# Altium schematic symbol library MPU6050_MODULE.SchLib: 1 symbol
Pins are listed as number, name and electrical type; pins without a type are passive.

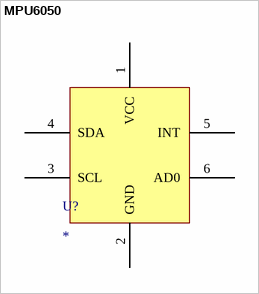
[diagram p0: symbol MPU6050]

## MPU6050
designator U?
pins: 1 VCC, 2 GND, 3 SCL, 4 SDA, 5 INT, 6 AD0